# EAGLE library part PIC16F1847-I/SO (library Ava)
IC, 18 Pin Flash Microcontrollers with XLP Technology-SOIC-18
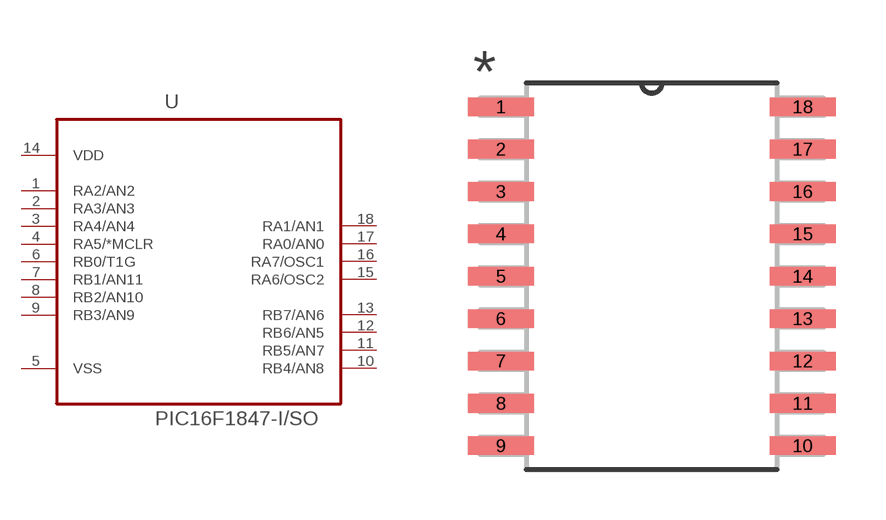
[diagram p37: symbol with the pads of SOIC127P1030X265-18N; footprint SOIC127P1030X265-18N]

Designator prefix U

## PIC16F1847-I/SO (MPN: PIC16F1847-I/SO; OC_FARNELL: 1971870; OC_NEWARK: 23T3107; PACKAGE: SOIC-18; SUPPLIER: Microchip)  [SOIC127P1030X265-18N]
1  RA2/AN2
2  RA3/AN3
3  RA4/AN4
4  RA5/*MCLR
5  VSS  pwr
6  RB0/T1G
7  RB1/AN11
8  RB2/AN10
9  RB3/AN9
10  RB4/AN8
11  RB5/AN7
12  RB6/AN5
13  RB7/AN6
14  VDD  pwr
15  RA6/OSC2
16  RA7/OSC1
17  RA0/AN0
18  RA1/AN1

## Footprint SOIC127P1030X265-18N (pad centres in mm)
smd 1.981 x 0.559: 1 -4.521,5.08; 2 -4.521,3.81; 3 -4.521,2.54; 4 -4.521,1.27; 5 -4.521,0; 6 -4.521,-1.27; 7 -4.521,-2.54; 8 -4.521,-3.81; 9 -4.521,-5.08; 10 4.521,-5.08; 11 4.521,-3.81; 12 4.521,-2.54; 13 4.521,-1.27; 14 4.521,0; 15 4.521,1.27; 16 4.521,2.54; 17 4.521,3.81; 18 4.521,5.08